# Altium schematic symbol library Misc.SchLib: 9 symbols
Pins are listed as number, name and electrical type; pins without a type are passive.

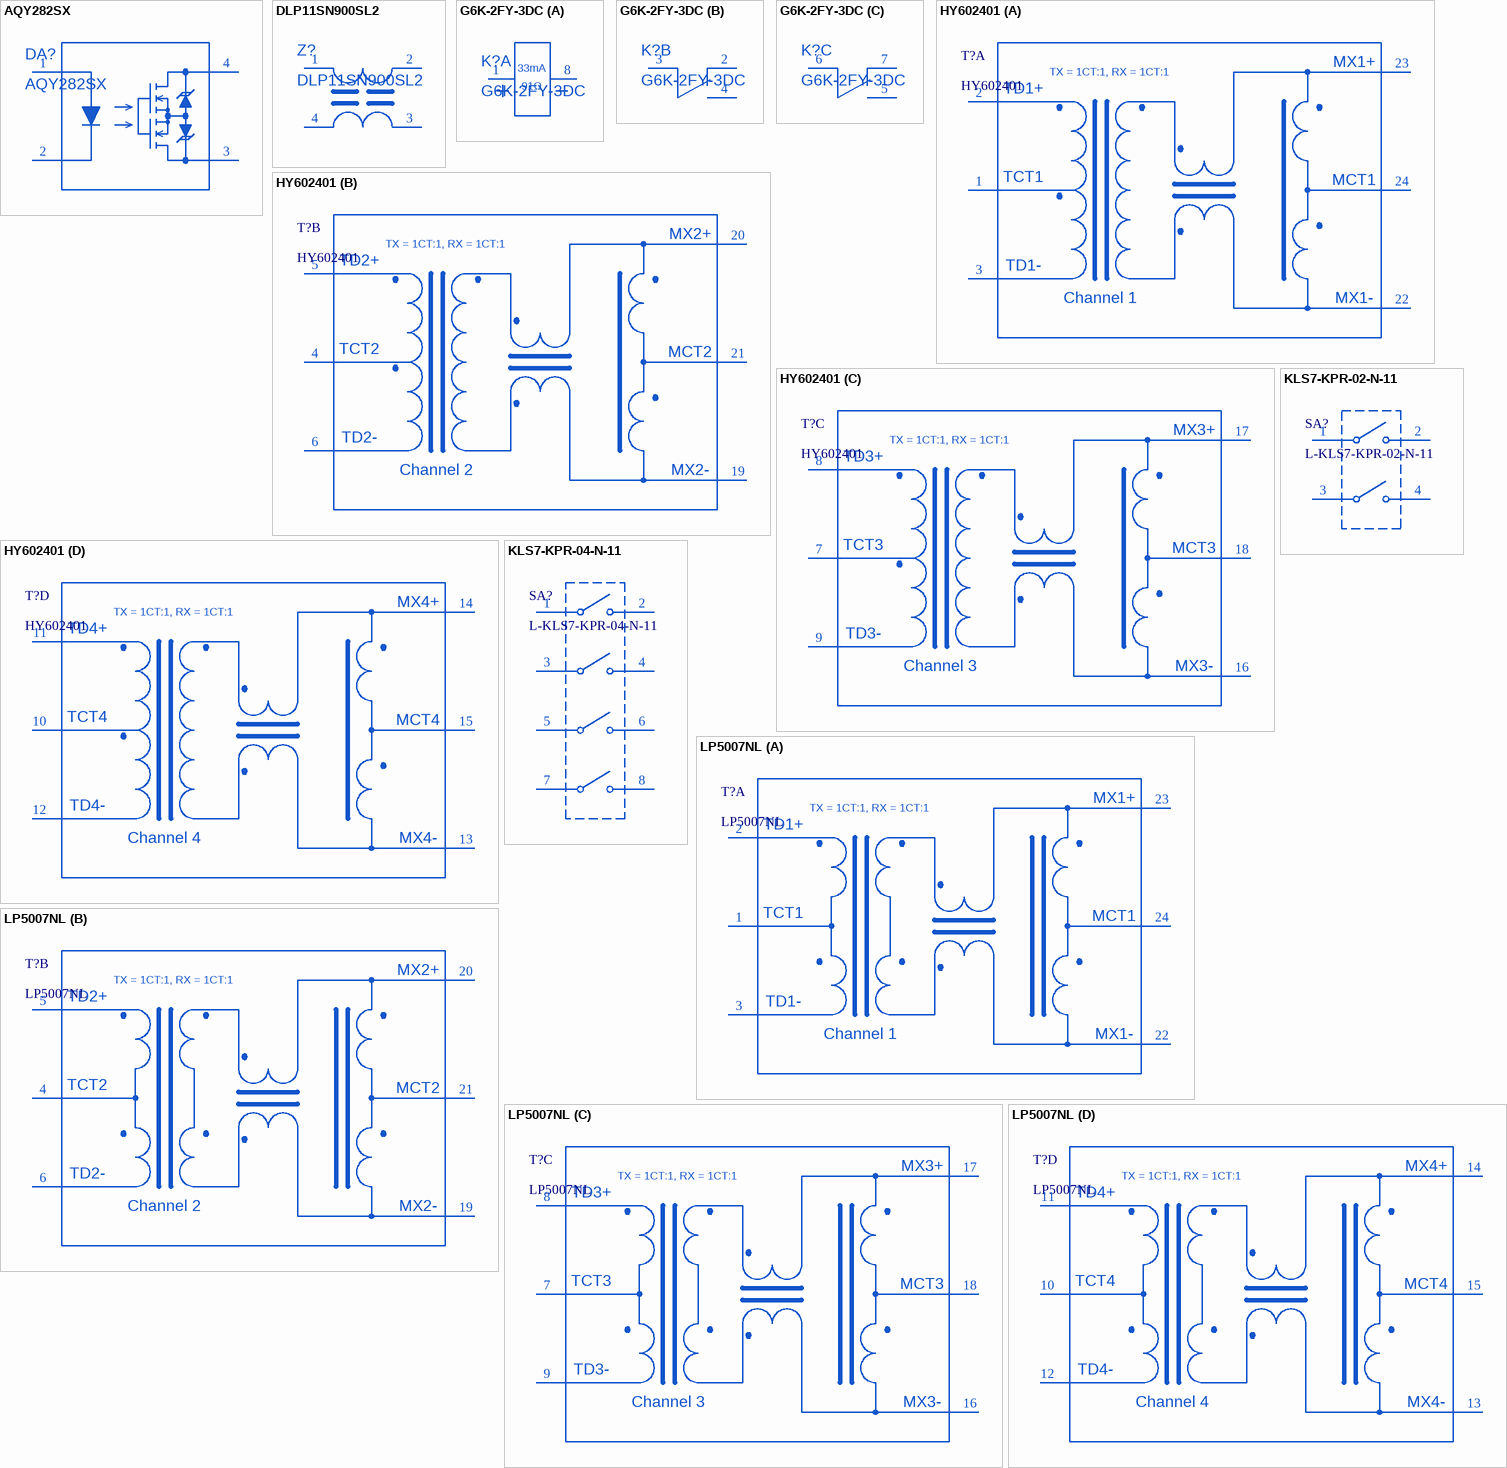
[diagram p0: symbols AQY282SX to LP5007NL]

## AQY282SX
designator DA?
SPST-NO(1 Form A) 1.14V 60V 850mΩ 500mA Solid State Relays (MOS Output); Manufacturer: Panasonic; ItemType: Relay; ItemSubType: Solid Relay; Marking: 282; PartNumber: AQY282SX; Mounting: SMD
footprint SOP4_AQY282SX (SOP-4-2.54mm Solid State Relay)
pins: 1 IN-, 2 OUT-, 3 OUT+, 4 IN+

## DLP11SN900SL2
designator Z?
Chip Common Mode Choke Coil, Z = 90 Ohm; Manufacturer: Murata; ItemType: Filter; ItemSubType: Signal Filter; PartNumber: DLP11SN900SL2; Mounting: SMD
footprint DLP11SN
pins: 1 IN-, 2 OUT-, 3 OUT+, 4 IN+

## G6K-2FY-3DC
designator K?
Surface Mounting Relay; Manufacturer: Omron; PartNumber: G6K-2FY-3DC; ItemType: Relay; ItemSubType: Relay; Mounting: SMD
footprint G6K-2F-Y (Surface Mounting Relay)
part A pins: 1 COIL_P, 8 COIL_N
part B pins: 2 1P1, 3 1C1, 4 1P2
part C pins: 5 2P2, 6 2C1, 7 2P1
part A text: 33mA; 91Ω

## HY602401
designator T?
1000BASE-T Magnetics Modules; Manufacturer: Hanrun; AltManufacturer1: Pulse Electronics; Alternative1: H5007NL; ItemType: Transformer; ItemSubType: Ethernet; PartNumber: HY602401; Mounting: SMD
footprint HY602401
part A pins: 1 TCT1, 2 TD1+, 3 TD1-, 22 MX1-, 23 MX1+, 24 MCT1
part B pins: 4 TCT2, 5 TD2+, 6 TD2-, 19 MX2-, 20 MX2+, 21 MCT2
part C pins: 7 TCT3, 8 TD3+, 9 TD3-, 16 MX3-, 17 MX3+, 18 MCT3
part D pins: 10 TCT4, 11 TD4+, 12 TD4-, 13 MX4-, 14 MX4+, 15 MCT4
part A text: TX = 1CT:1, RX = 1CT:1; Channel 1
part B text: TX = 1CT:1, RX = 1CT:1; Channel 2
part C text: TX = 1CT:1, RX = 1CT:1; Channel 3
part D text: TX = 1CT:1, RX = 1CT:1; Channel 4

## KLS7-KPR-02-N-11
designator SA?, comment L-KLS7-KPR-02-N-11
1.27mm Half Pitch DIP Switch; Manufacturer: KLS; ItemType: Mechnical; PartNumber: L-KLS7-KPR-02-N-11; ItemSubType: DIP Switch; Mounting: SMD
footprint KLS7-KPR-02-N (1.27mm Half Pitch DIP Switch)
pins: 1, 2, 3, 4

## KLS7-KPR-04-N-11
designator SA?, comment L-KLS7-KPR-04-N-11
1.27mm Half Pitch DIP Switch; Manufacturer: KLS; ItemType: Mechnical; PartNumber: L-KLS7-KPR-04-N-11; ItemSubType: DIP Switch; Mounting: SMD
footprint KLS7-KPR-04-N (1.27mm Half Pitch DIP Switch)
pins: 1, 2, 3, 4, 5, 6, 7, 8

## LP5007NL
designator T?
1000BASE-T Magnetics Modules; Manufacturer: Link-PP; AltManufacturer1: Pulse Electronics; Alternative1: H5007NL; ItemType: Transformer; ItemSubType: Ethernet; PartNumber: LP5007NL; Mounting: SMD
footprint LP5007NL
part A pins: 1 TCT1, 2 TD1+, 3 TD1-, 22 MX1-, 23 MX1+, 24 MCT1
part B pins: 4 TCT2, 5 TD2+, 6 TD2-, 19 MX2-, 20 MX2+, 21 MCT2
part C pins: 7 TCT3, 8 TD3+, 9 TD3-, 16 MX3-, 17 MX3+, 18 MCT3
part D pins: 10 TCT4, 11 TD4+, 12 TD4-, 13 MX4-, 14 MX4+, 15 MCT4
part A text: TX = 1CT:1, RX = 1CT:1; Channel 1
part B text: TX = 1CT:1, RX = 1CT:1; Channel 2
part C text: TX = 1CT:1, RX = 1CT:1; Channel 3
part D text: TX = 1CT:1, RX = 1CT:1; Channel 4

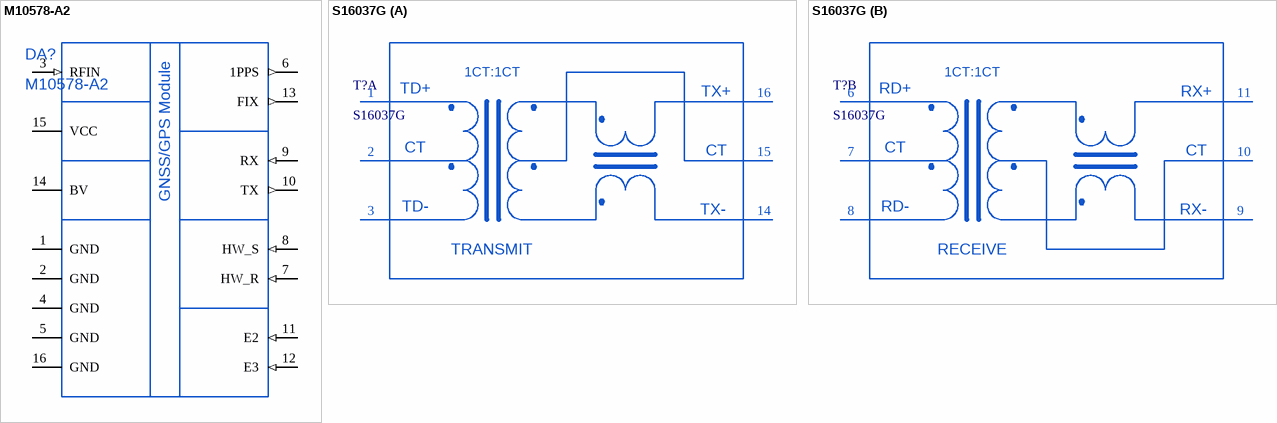
[diagram p1: symbols M10578-A2 to S16037G]

## M10578-A2
designator DA?
GPS module receiver; Manufacturer: Antenova; PartNumber: M10578-A2; ItemType: Module; ItemSubType: GPS Module; Mounting: SMD
footprint M10578-A2 (GNSS / GPS Module)
pins: 1 GND, 2 GND, 3 RFIN (in), 4 GND, 5 GND, 6 1PPS (out), 7 HW_R (in), 8 HW_S (in), 9 RX (in), 10 TX (out), 11 E2 (in), 12 E3 (in), 13 FIX (out), 14 BV (power), 15 VCC (power), 16 GND
text: GNSS/GPS Module

## S16037G
designator T?
100BASE-T Magnetics Modules; Manufacturer: Sichuan Jingweida; AltManufacturer1: HANRUN; Alternative1: HR601680; ItemType: Transformer; ItemSubType: Ethernet; PartNumber: S16037G; Mounting: SMD
footprint SOP16_ETHERNET (100 MBis/s Ethernet Transformer)
part A pins: 1 TD+, 2 CT1, 3 TD-, 14 TX-, 15 CT2, 16 TX+
part B pins: 6 RD+, 7 CT3, 8 RD-, 9 RX-, 10 CT4, 11 RX+
part A text: 1CT:1CT; CT; TRANSMIT
part B text: 1CT:1CT; CT; RECEIVE